# EAGLE library part TMDS361BPAG (library TMDS361BPAG)
Three-Port HDMI Switch
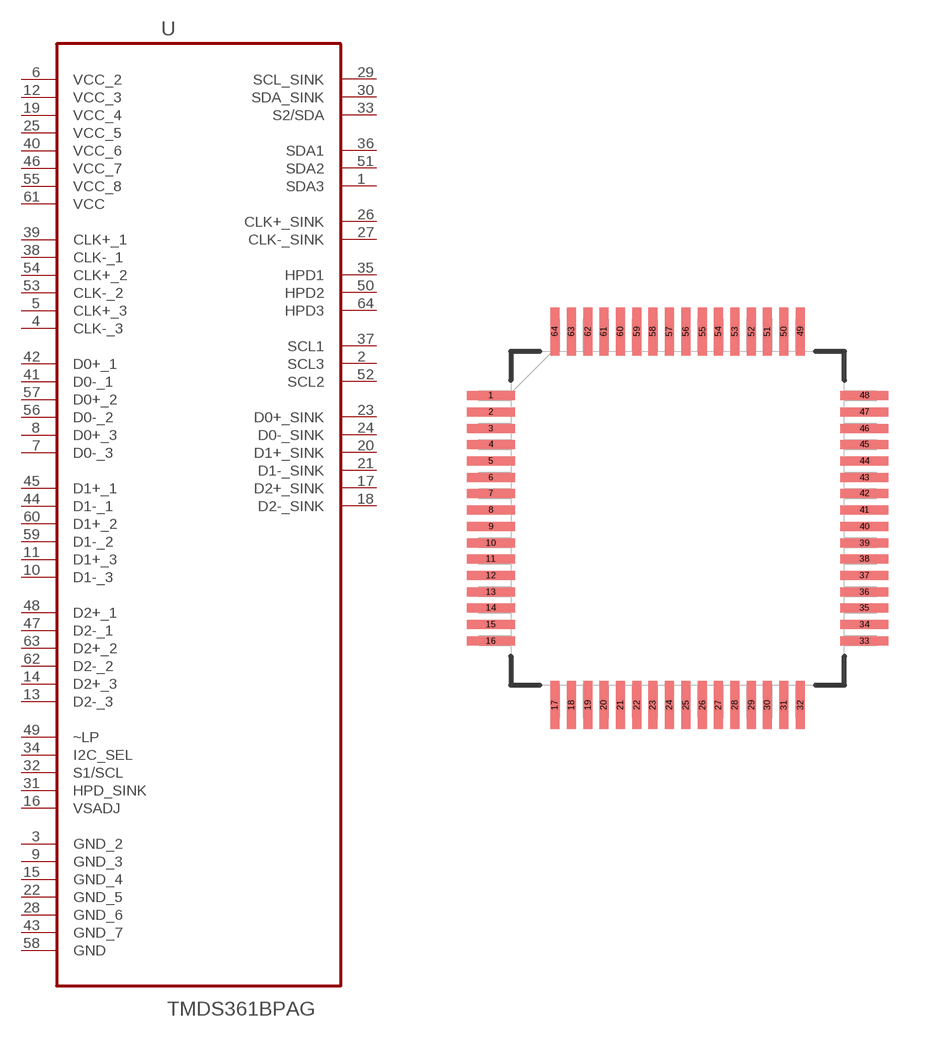
[diagram p0: symbol with the pads of QFP50P1200X1200X120-64N; footprint QFP50P1200X1200X120-64N]

Designator prefix U

## TMDS361BPAG (Availability: Good; Description: Ic Switch Dvi/Hdmi 3: 1 64-Tqfp - Tmds361bpag; MF: Texas Instruments; MP: TMDS361BPAG; Package: TQFP-64 Texas Instruments; Price: 3.46 USD)  [QFP50P1200X1200X120-64N]
1  SDA3
2  SCL3
3  GND_2  pas
4  CLK-_3  in
5  CLK+_3  in
6  VCC_2  pwr
7  D0-_3  in
8  D0+_3  in
9  GND_3  pas
10  D1-_3  in
11  D1+_3  in
12  VCC_3  pwr
13  D2-_3  in
14  D2+_3  in
15  GND_4  pas
16  VSADJ  in
17  D2+_SINK  out
18  D2-_SINK  out
19  VCC_4  pwr
20  D1+_SINK  out
21  D1-_SINK  out
22  GND_5  pas
23  D0+_SINK  out
24  D0-_SINK  out
25  VCC_5  pwr
26  CLK+_SINK  out
27  CLK-_SINK  out
28  GND_6  pas
29  SCL_SINK
30  SDA_SINK
31  HPD_SINK  in
32  S1/SCL  in
33  S2/SDA
34  I2C_SEL  in
35  HPD1  out
36  SDA1
37  SCL1
38  CLK-_1  in
39  CLK+_1  in
40  VCC_6  pwr
41  D0-_1  in
42  D0+_1  in
43  GND_7  pas
44  D1-_1  in
45  D1+_1  in
46  VCC_7  pwr
47  D2-_1  in
48  D2+_1  in
49  ~LP  in
50  HPD2  out
51  SDA2
52  SCL2
53  CLK-_2  in
54  CLK+_2  in
55  VCC_8  pwr
56  D0-_2  in
57  D0+_2  in
58  GND  pas
59  D1-_2  in
60  D1+_2  in
61  VCC  pwr
62  D2-_2  in
63  D2+_2  in
64  HPD3  out

## Footprint QFP50P1200X1200X120-64N (pad centres in mm)
smd 1.473 x 0.279: 1 -5.715,3.759; 2 -5.715,3.251; 3 -5.715,2.743; 4 -5.715,2.261; 5 -5.715,1.753; 6 -5.715,1.245; 7 -5.715,0.762; 8 -5.715,0.254; 9 -5.715,-0.254; 10 -5.715,-0.762; 11 -5.715,-1.245; 12 -5.715,-1.753; 13 -5.715,-2.261; 14 -5.715,-2.743; 15 -5.715,-3.251; 16 -5.715,-3.759; 33 5.715,-3.759; 34 5.715,-3.251; 35 5.715,-2.743; 36 5.715,-2.261; 37 5.715,-1.753; 38 5.715,-1.245; 39 5.715,-0.762; 40 5.715,-0.254; 41 5.715,0.254; 42 5.715,0.762; 43 5.715,1.245; 44 5.715,1.753; 45 5.715,2.261; 46 5.715,2.743; 47 5.715,3.251; 48 5.715,3.759
smd 0.279 x 1.473: 17 -3.759,-5.715; 18 -3.251,-5.715; 19 -2.743,-5.715; 20 -2.261,-5.715; 21 -1.753,-5.715; 22 -1.245,-5.715; 23 -0.762,-5.715; 24 -0.254,-5.715; 25 0.254,-5.715; 26 0.762,-5.715; 27 1.245,-5.715; 28 1.753,-5.715; 29 2.261,-5.715; 30 2.743,-5.715; 31 3.251,-5.715; 32 3.759,-5.715; 49 3.759,5.715; 50 3.251,5.715; 51 2.743,5.715; 52 2.261,5.715; 53 1.753,5.715; 54 1.245,5.715; 55 0.762,5.715; 56 0.254,5.715; 57 -0.254,5.715; 58 -0.762,5.715; 59 -1.245,5.715; 60 -1.753,5.715; 61 -2.261,5.715; 62 -2.743,5.715; 63 -3.251,5.715; 64 -3.759,5.715